# Altium integrated library neurosky.IntLib: 2 symbols
Pins are listed as number, name and electrical type; pins without a type are passive.

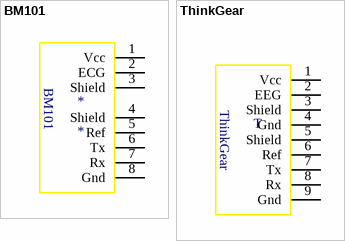
[diagram p0: symbols BM101 to ThinkGear]

## BM101
designator *
footprint BM101
pins: 1 Vcc, 2 ECG, 3 Shield, 4 Shield, 5 Ref, 6 Tx, 7 Rx, 8 Gnd

## ThinkGear
designator T  (value not drawn)
footprint ThinkGear
pins: 1 Vcc, 2 EEG, 3 Shield, 4 Gnd, 5 Shield, 6 Ref, 7 Tx, 8 Rx, 9 Gnd